# Altium schematic symbol library DEVICES.SchLib: 12 symbols
Pins are listed as number, name and electrical type; pins without a type are passive.

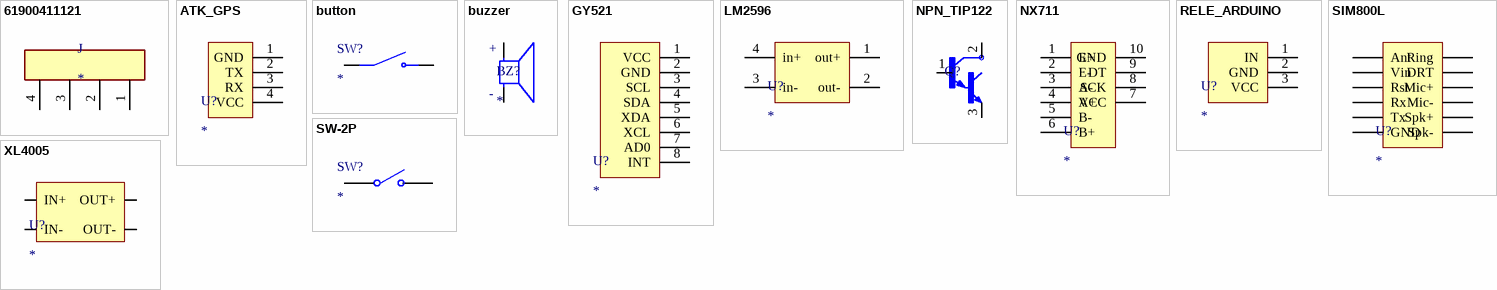
[diagram p0: symbols 61900411121 to XL4005]

## 61900411121
designator J
Connector Header Through Hole 4 position 0.100 _2.54mm_; MF: Wurth Electronics; MP: 61900411121; Value: *; Price: None; Package: None; SnapEDA_Link: https://www.snapeda.com/parts/61900411121/Wurth%20Electronics%20Inc./view-part/12374/?ref=snap; Availability: Unavailable
footprint 61900411121
pins: 1, 2, 3, 4

## ATK_GPS
designator U?
footprint ATK-GPS
pins: 1 GND, 2 TX, 3 RX, 4 VCC

## button
designator SW?
footprint button
pins: 1 COM, 2 COM, 3 NO, 4 NO

## buzzer
designator BZ?
footprint buzzer
pins: N NEG, P POS
text: +; -

## GY521
designator U?
footprint GY521
pins: 1 VCC, 2 GND, 3 SCL, 4 SDA, 5 XDA, 6 XCL, 7 AD0, 8 INT

## LM2596
designator U?
footprint LM2596
pins: 1 out+, 2 out-, 3 in-, 4 in+

## NPN_TIP122
designator Q?
NPN Darlington Bipolar Transistor
footprint NPN_TIP122
pins: 1 B, 2 C, 3 E

## NX711
designator U?
footprint NX711
pins: 1 E+, 2 E-, 3 A-, 4 A+, 5 B-, 6 B+, 7 VCC, 8 SCK, 9 DT, 10 GND

## RELE_ARDUINO
designator U?
footprint RELE
pins: 1 IN, 2 GND, 3 VCC

## SIM800L
designator U?
footprint SIM800L
pins: 1 Ant, 2 Vin, 3 Rst, 4 Rx, 5 Tx, 6 GND, 7 Spk-, 8 Spk+, 9 Mic-, 10 Mic+, 11 DRT, 12 Ring

## SW-2P
designator SW?
footprint SW-2
pins: 1 COMMON, 2 NO

## XL4005
designator U?
footprint XL4005
pins: 1 IN-, 2 IN+, 3 OUT-, 4 OUT+